# Altium schematic symbol library PIEZO_BUZZER.SchLib: 1 symbol
Pins are listed as number, name and electrical type; pins without a type are passive.

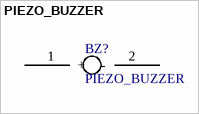
[diagram p0: symbol PIEZO_BUZZER]

## PIEZO_BUZZER
designator BZ?
Piezo buzzer symbol
pins: 1 +, 2 -